# Altium footprint library Battery.PcbLib: 6 footprints
Each footprint in its own frame and in the unit in brackets; x right, y up, seen from the top. Pads: shape width x height; smd on the part's side, far side on the other; paste and mask are expansions set on the pad; w line width, h text height; cw(c..) or ccw(c..) is an arc to the next point about the centre after c.
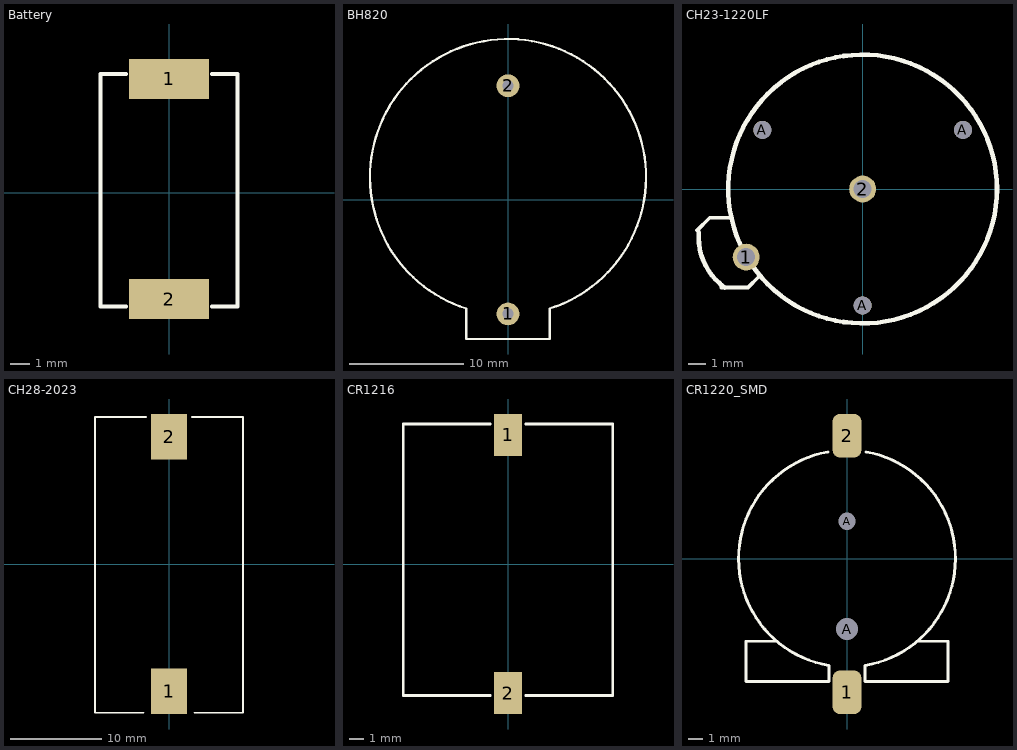
[diagram p0: the footprints below, top view; thin cyan lines are the x and y axes]

## Battery [mm]
pads (2):
  rect 4x2 smd: 1(0,5.715) 2(0,-5.334)
Top Overlay:
  lines w0.2: -2.159,-5.715 -3.429,-5.715 -3.429,5.969 -2.159,5.969 ; 2.159,-5.715 3.429,-5.715 3.429,5.969 2.159,5.969

## BH820 [mm] "Battery holder 2032, 2025, 2016"
height 8.5
pads (2):
  round 2 hole 1: 1(0,-10) 2(0,10)
Top Overlay:
  lines w0.2: -3.65,-9.538 -3.65,-12.2 3.65,-12.2 3.65,-9.535 ; -3.646,-9.538 cw(c0,2) 3.656,-9.535
3D body "Battery_holder_CR2032.STEP": height 8.5, standoff -4, extent -11,-11.25 11,13.25

## CH23-1220LF [mm] "1220 Battary holder"
pads (5):
  round 1.5 hole 1: 1(-6.5,-3.8) 2(0,0)
  round 1 hole 1: A(-5.6,3.3) A(0,-6.5) A(5.6,3.3)
Top Overlay:
  circle w0.254: c0,0 r7.5
  lines w0.2: -9.245,-2.312 -8.534,-1.6 -7.3,-1.6 ; -7.9,-5.5 -6.4,-5.5 -5.8,-4.9
  lines w0.254: -9.145,-2.412 ccw(c-5.672,-2.669) -7.7,-5.5

## CH28-2023 [mm]
pads (2):
  rect 4x5 smd: 1(0,-14) 2(0,14)
Top Overlay:
  lines w0.2: -2.794,-16.353 -8.128,-16.353 -8.128,16.159 -2.54,16.159 ; 2.54,16.159 8.128,16.159 8.128,-16.353 2.794,-16.353

## CR1216 [mm]
pads (2):
  rect 2x3 smd: 1(0,9.24) 2(0,-9.239)
Top Overlay:
  lines w0.2: -1.27,-9.408 -7.493,-9.408 -7.493,10.023 -1.27,10.023 ; 1.27,-9.408 7.493,-9.408 7.493,10.023 1.27,10.023

## CR1220_SMD [mm] "1220 Battary holder"
pads (4):
  rrect50% 2x3 smd: 1(0,-9.25) 2(0,8.5)
  round 1.3 hole 1.5: A(0,-4.875)
  round 1 hole 1.2: A(0,2.575)
Top Overlay:
  lines w0.2: -4.85,-5.715 -6.985,-5.715 -6.985,-8.509 -1.25,-8.509 -1.25,-7.4 ; -1.318,7.383 ccw(c0,0) -1.249,-7.395 ; 1.25,-7.4 1.25,-8.509 6.985,-8.509 6.985,-5.715 4.85,-5.715 ; 1.249,-7.395 ccw(c0,0) 1.318,7.383
3D body "SMD_Battery_holder_CR1220.STEP": height 4.35, standoff -0.9, extent -7.374,-10.173 7.374,9.028